# Altium schematic symbol library Diode.SchLib: 40 symbols
Pins are listed as number, name and electrical type; pins without a type are passive.

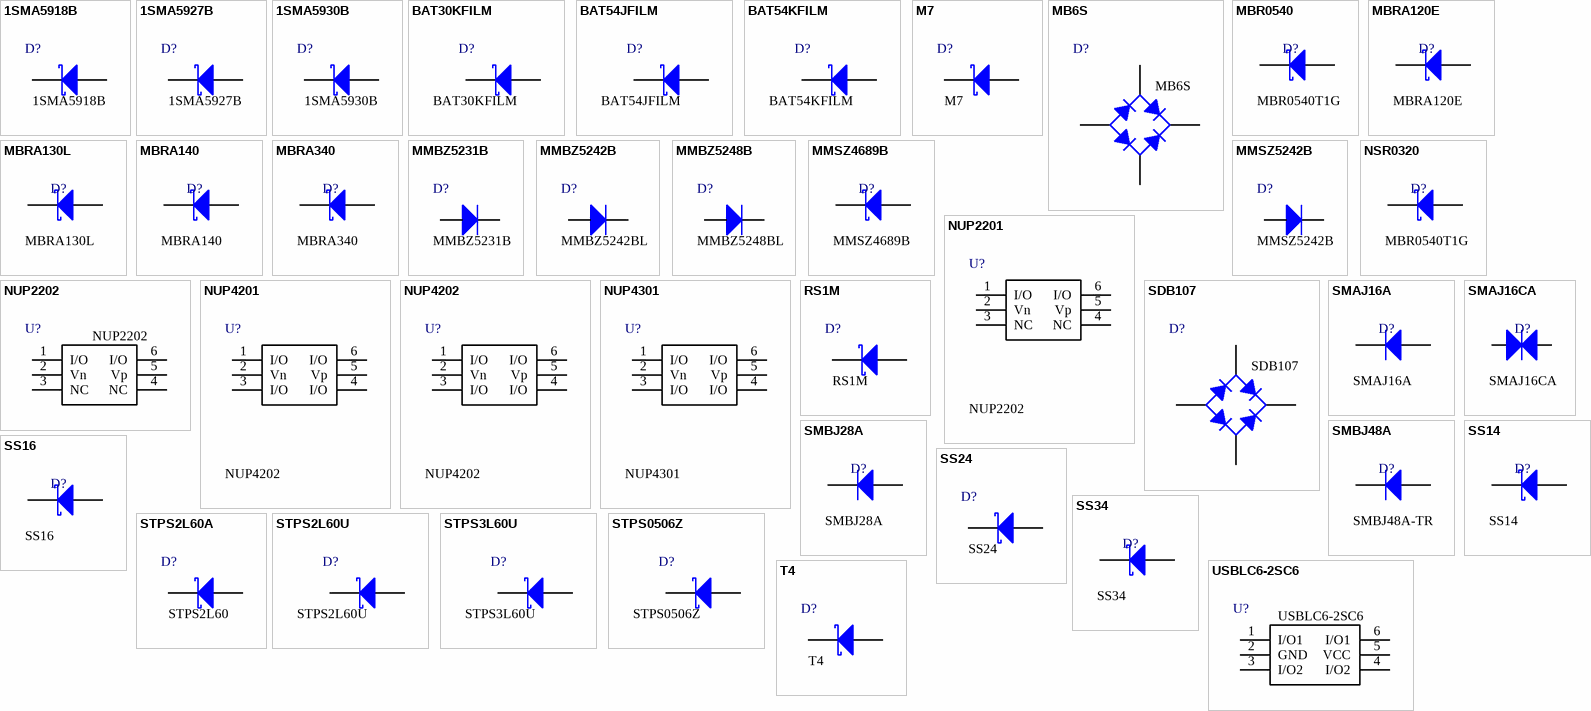
[diagram p0: symbols 1SMA5918B to USBLC6-2SC6]

## 1SMA5918B
designator D?, comment Global part number: 1SMA5918B  (hidden comment: 5.1V)
Schottky; Manufacture: ON Semiconductor; Mount type: SMT; Size: DO214-AC; Value: 5.1V
footprint DO-214AC(SMA)
pins: 1 K, 2 A

## 1SMA5927B
designator D?, comment Global part number: 1SMA5927B  (hidden comment: 12V)
Schottky; Manufacture: ON Semiconductor; Mount type: SMT; Size: DO214-AC; Value: 12V
footprint DO-214AA(SMB)
footprint DO-214AC(SMA)
pins: 1 K, 2 A

## 1SMA5930B
designator D?, comment Global part number: 1SMA5930B  (hidden comment: 24V)
Schottky; Manufacture: ON Semiconductor; Mount type: SMT; Size: DO214-AC; Value: 24V
footprint DO-214AA(SMB)
footprint DO-214AC(SMA)
pins: 1 K, 2 A

## BAT30KFILM
designator D?  Global part number: BAT30KFILM
Schottky; Manufacture: STMicroelectronics; Size: SOD-523; Mount type: SMT
footprint SOD-523 D2
pins: 1 K, 2 A

## BAT54JFILM
designator D?  Global part number: BAT54JFILM
Schottky; Manufacture: STMicroelectronics; Size: SOD-323; Mount type: SMT
footprint SOD-323 D1
footprint SOD-323 D2
pins: 1 K, 2 A

## BAT54KFILM
designator D?  Global part number: BAT54KFILM
Schottky; Manufacture: STMicroelectronics; Series: Diode; Size: SOD-523; Mount type: SMT
footprint SOD-523 D1
footprint SOD-523 D2
pins: 1 K, 2 A

## M7
designator D?  Global part number: M7
Diode; Manufacture: MDD; Mount type: SMT; Size: DO214-AC
footprint DO-214AC
footprint SMA
pins: 1 K, 2 A

## MB6S
designator D?  Global part number: MB6S
Full Wave Diode Bridge; Manufacture: MCC; Mount type: SMT; Size: MBS
footprint MBS
pins: 1, 2, 3, 4

## MBR0540
designator D?  Global part number: MBR0540T1G
Schottky; Manufacture: ON Semiconductor; Size: SOD-123; Mount type: SMT
pins: 1 K, 2 A

## MBRA120E
designator D?  Global part number: MBRA120E
Schottky; Manufacture: ON Semiconductor; Size: DO214-AC(SMA); Mount type: SMT
footprint DO-214AC(SMA)
pins: 1 K, 2 A

## MBRA130L
designator D?  Global part number: MBRA130L
Schottky; Manufacture: ON Semiconductor; Size: DO214-AC(SMA); Mount type: SMT
footprint DO-214AC(SMA)
pins: 1 K, 2 A

## MBRA140
designator D?  Global part number: MBRA140
Schottky; Manufacture: ON Semiconductor; Size: DO214-AC(SMA); Mount type: SMT
footprint DO-214AC(SMA)
pins: 1 K, 2 A

## MBRA340
designator D?  Global part number: MBRA340
Schottky; Manufacture: ON Semiconductor; Size: DO214-AC(SMA); Mount type: SMT
footprint DO-214AC(SMA)
pins: 1 K, 2 A

## MMBZ5231B
designator D?, comment Global part number: MMBZ5231B  (hidden comment: 5.1V)
Zener Voltage Regulators; Manufacture: ON Semiconductor; Mount type: SMT; Size: SOT23; Value: 5.1V
footprint SOT23
pins: 1, 2, 3

## MMBZ5242B
designator D?, comment Global part number: MMBZ5242BL  (hidden comment: 12V)
Zener Voltage Regulators; Manufacture: ON Semiconductor; Mount type: SMT; Size: SOT23; Value: 12V
footprint SOT23
pins: 1, 2, 3

## MMBZ5248B
designator D?, comment Global part number: MMBZ5248BL  (hidden comment: 18V)
Zener Voltage Regulators; Manufacture: ON Semiconductor; Mount type: SMT; Size: SOT23; Value: 18V
footprint SOT23
pins: 1, 2, 3

## MMSZ4689B
designator D?, comment Global part number: MMSZ4689B  (hidden comment: 5.1V)
Zener Voltage Regulators; Manufacture: ON Semiconductor; Size: SOD-123; Mount type: SMT; Value: 5.1V
footprint SOD-123
pins: 1 K, 2 A

## MMSZ5242B
designator D?, comment Global part number: MMSZ5242B  (hidden comment: 12V)
Zener Voltage Regulators; Manufacture: ON Semiconductor; Mount type: SMT; Size: SOT-123; Value: 12V
footprint SOD-123 D1
footprint SOD-123 D2
pins: 1, 2

## NSR0320
designator D?  Global part number: MBR0540T1G
Schottky; Manufacture: ON Semiconductor; Size: SOD-323; Mount type: SMT
footprint SOD-323 D2
footprint SOD-323 D1
pins: 1 K, 2 A

## NUP2201
designator U?  Global part number: NUP2202
TVS; Manufacture: ON Semiconductor; Mount type: SMT; Size: SOT23-6
footprint SOT23-6
pins: 1 I/O (power), 2 Vn (power), 3 NC (power), 4 NC (power), 5 Vp (power), 6 I/O (power)

## NUP2202
designator U?  Global part number: NUP2202
TVS; Manufacture: ON Semiconductor; Mount type: SMT; Size: SOT-363
footprint SOT-363
pins: 1 I/O (power), 2 Vn (power), 3 NC (power), 4 NC (power), 5 Vp (power), 6 I/O (power)

## NUP4201
designator U?  Global part number: NUP4202
TVS; Manufacture: ON Semiconductor; Mount type: SMT; Size: SOT23-6
footprint SOT23-6
pins: 1 I/O (power), 2 Vn (power), 3 I/O (power), 4 I/O (power), 5 Vp (power), 6 I/O (power)

## NUP4202
designator U?  Global part number: NUP4202
TVS; Manufacture: ON Semiconductor; Mount type: SMT; Size: SOT-363
footprint SOT-363
pins: 1 I/O (power), 2 Vn (power), 3 I/O (power), 4 I/O (power), 5 Vp (power), 6 I/O (power)

## NUP4301
designator U?  Global part number: NUP4301
ESD; Manufacture: ON Semiconductor; Mount type: SMT; Size: SOT23-6
footprint SOT23-6
pins: 1 I/O (power), 2 Vn (power), 3 I/O (power), 4 I/O (power), 5 Vp (power), 6 I/O (power)

## RS1M
designator D?  Global part number: RS1M
Diode; Manufacture: MDD; Mount type: SMT; Size: DO214-AC
footprint DO-214AC(SMA)
pins: 1 K, 2 A

## SDB107
designator D?  Global part number: SDB107
Full Wave Diode Bridge; Manufacture: MCC; Mount type: SMT; Size: MBS
footprint DBS
pins: 1, 2, 3, 4

## SMAJ16A
designator D?, comment Global part number: SMAJ16A  (hidden comment: 16V)
TVS; Value: 16V; Size: DO214-AC; Mount type: SMT
footprint DO-214AC(SMA)
pins: 1 K, 2 A

## SMAJ16CA
designator D?, comment Global part number: SMAJ16CA  (hidden comment: 16V)
TVS; Value: 16V; Size: DO214-AC; Mount type: SMT
footprint DO-214AC(SMA)
pins: 1 K, 2 A

## SMBJ28A
designator D?, comment Global part number: SMBJ28A  (hidden comment: 48V)
TVS; Manufacture: STMicroelectronics; Value: 48V; Size: DO214-AC; Mount type: SMT
footprint DO-214AC
footprint SMA
pins: 1 K, 2 A

## SMBJ48A
designator D?, comment Global part number: SMBJ48A-TR  (hidden comment: 48V)
TVS; Manufacture: STMicroelectronics; Value: 48V; Size: DO214-AA; Mount type: SMT
footprint DO-214AA(SMB)
pins: 1 K, 2 A

## SS14
designator D?  Global part number: SS14
Schottky; Manufacture: Vishay; Size: DO-214AC; Mount type: SMT
footprint DO-214AC
footprint SMA
pins: 1 K, 2 A

## SS16
designator D?  Global part number: SS16
Schottky; Manufacture: Vishay; Size: DO-214AC; Mount type: SMT
footprint DO-214AC
footprint SMA
pins: 1 K, 2 A

## SS24
designator D?  Global part number: SS24
Schottky; Manufacture: MDD; Mount type: SMT; Size: DO214-AC
footprint DO-214AC
footprint SMA
pins: 1 K, 2 A

## SS34
designator D?  Global part number: SS34
Schottky; Manufacture: Vishay; Size: DO-214AB; Mount type: SMT
footprint DO-214AB
footprint SMC
pins: 1 K, 2 A

## STPS2L60A
designator D?  Global part number: STPS2L60
Schottky; Manufacture: STMicroelectronics; Mount type: SMT; Size: DO214-AC
footprint DO-214AC
footprint SMA
pins: 1 K, 2 A

## STPS2L60U
designator D?  Global part number: STPS2L60U
Schottky; Manufacture: STMicroelectronics; Size: DO-214AA; Mount type: SMT
footprint DO-214AA
footprint SMB
pins: 1 K, 2 A

## STPS3L60U
designator D?  Global part number: STPS3L60U
Schottky; Manufacture: STMicroelectronics; Size: DO-214AA; Mount type: SMT
footprint SMB
footprint DO-214AA
pins: 1 K, 2 A

## STPS0506Z
designator D?  Global part number: STPS0506Z
Schottky; Manufacture: STMicroelectronics; Size: SOD-123; Mount type: SMT
footprint SOD-123 D1
footprint SOD-123 D2
pins: 1 K, 2 A

## T4
designator D?  Global part number: T4
Diode; Manufacture: CJ; Mount type: SMT; Size: SOD-123
footprint SOD-123
footprint SOD-323
footprint SOD-523
pins: 1 K, 2 A

## USBLC6-2SC6
designator U?  Global part number: USBLC6-2SC6
ESD; Manufacture: STMicroelectronics; Mount type: SMT; Size: SOT23-6
footprint SOT23-6
pins: 1 I/O1, 2 GND, 3 I/O2, 4 I/O2, 5 VCC, 6 I/O1